# EAGLE library part FDC9266 (library 8Bit_Parts)
FDC9266 MFM Disk Controller
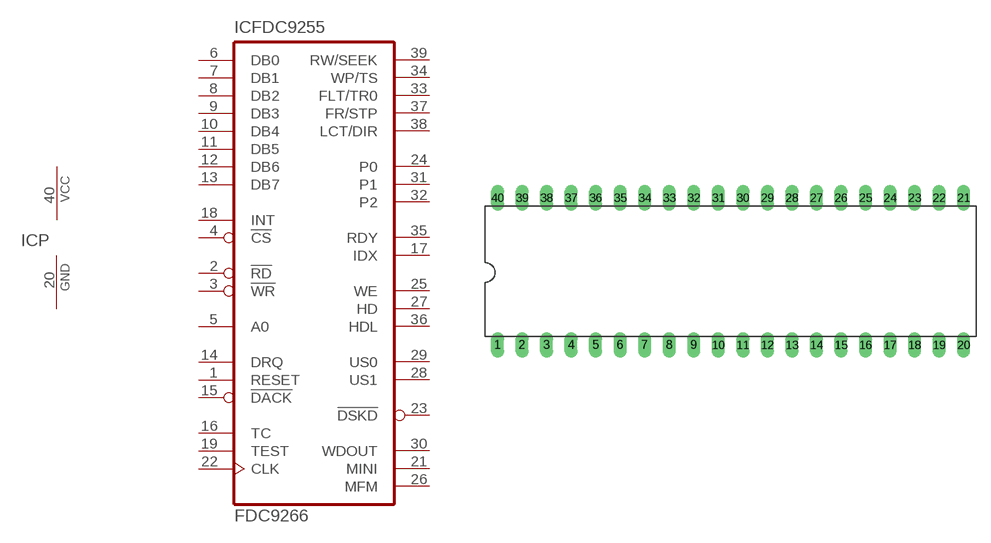
[diagram p0: symbol with the pads of DIL40; footprint DIL40]

Designator prefix IC; gates P=PWRN FDC9255=FDC9266

## FDC9266  [DIL40]
1  FDC9255:RESET  in
2  FDC9255:!RD  in
3  FDC9255:!WR  in
4  FDC9255:!CS  in
5  FDC9255:A0  in
6  FDC9255:DB0
7  FDC9255:DB1
8  FDC9255:DB2
9  FDC9255:DB3
10  FDC9255:DB4
11  FDC9255:DB5
12  FDC9255:DB6
13  FDC9255:DB7
14  FDC9255:DRQ  in
15  FDC9255:!DACK  out
16  FDC9255:TC  in
17  FDC9255:IDX  in
18  FDC9255:INT  in
19  FDC9255:TEST  in
20  P:GND  pwr
21  FDC9255:MINI  in
22  FDC9255:CLK  in
23  FDC9255:!DSKD  in
24  FDC9255:P0  hiz
25  FDC9255:WE  out
26  FDC9255:MFM  out
27  FDC9255:HD  out
28  FDC9255:US1  out
29  FDC9255:US0  out
30  FDC9255:WDOUT  out
31  FDC9255:P1  hiz
32  FDC9255:P2  hiz
33  FDC9255:FLT/TR0  in
34  FDC9255:WP/TS  in
35  FDC9255:RDY  in
36  FDC9255:HDL  out
37  FDC9255:FR/STP  hiz
38  FDC9255:LCT/DIR  hiz
39  FDC9255:RW/SEEK  hiz
40  P:VCC  pwr

## Footprint DIL40 (pad centres in mm)
Dual In Line Package
drill 0.813 long: 1 -24.13,-7.62; 2 -21.59,-7.62; 3 -19.05,-7.62; 4 -16.51,-7.62; 5 -13.97,-7.62; 6 -11.43,-7.62; 7 -8.89,-7.62; 8 -6.35,-7.62; 9 -3.81,-7.62; 10 -1.27,-7.62; 11 1.27,-7.62; 12 3.81,-7.62; 13 6.35,-7.62; 14 8.89,-7.62; 15 11.43,-7.62; 16 13.97,-7.62; 17 16.51,-7.62; 18 19.05,-7.62; 19 21.59,-7.62; 20 24.13,-7.62; 21 24.13,7.62; 22 21.59,7.62; 23 19.05,7.62; 24 16.51,7.62; 25 13.97,7.62; 26 11.43,7.62; 27 8.89,7.62; 28 6.35,7.62; 29 3.81,7.62; 30 1.27,7.62; 31 -1.27,7.62; 32 -3.81,7.62; 33 -6.35,7.62; 34 -8.89,7.62; 35 -11.43,7.62; 36 -13.97,7.62; 37 -16.51,7.62; 38 -19.05,7.62; 39 -21.59,7.62; 40 -24.13,7.62